# EAGLE library part BMP280 (library general_lib)
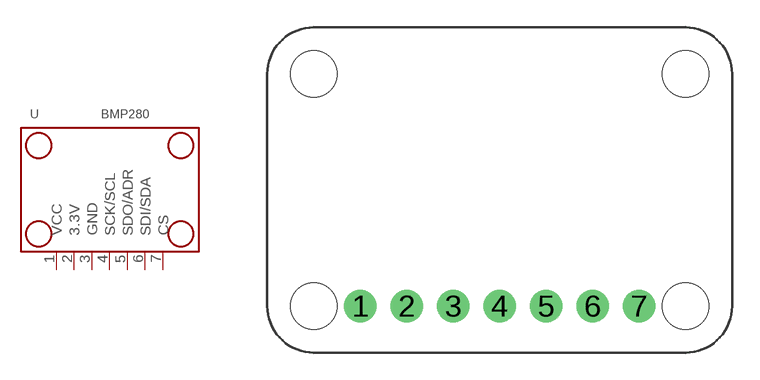
[diagram p1: symbol with the pads of BMP280; footprint BMP280]

Designator prefix -

## BMP280  [BMP280]
1  VCC  sup
2  3.3V  sup
3  GND  sup
4  SCK/SCL
5  SDO/ADR
6  SDI/SDA
7  CS

## Footprint BMP280 (pad centres in mm)
drill 1.016 pad 1.778: 1 5.08,2.54; 2 7.62,2.54; 3 10.16,2.54; 4 12.7,2.54; 5 15.24,2.54; 6 17.78,2.54; 7 20.32,2.54
hole 2.54 at 2.54,15.24
hole 2.54 at 22.86,15.24
hole 2.54 at 22.86,2.54
hole 2.54 at 2.54,2.54